# Altium footprint library Cap_Al.PcbLib: 6 footprints
Each footprint in its own frame and in the unit in brackets; x right, y up, seen from the top. Pads: shape width x height; smd on the part's side, far side on the other; paste and mask are expansions set on the pad; w line width, h text height; cw(c..) or ccw(c..) is an arc to the next point about the centre after c.
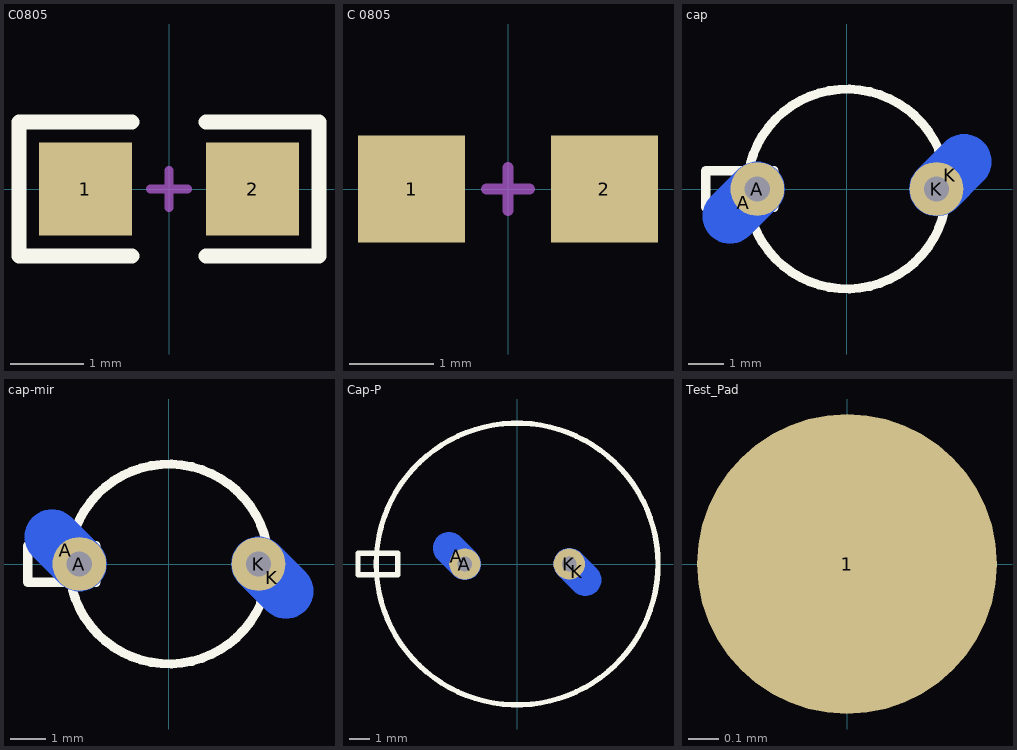
[diagram p0: the footprints below, top view; thin cyan lines are the x and y axes]

## C0805 [mil] "无极性贴片电容"
height 19.68
pads (2):
  rect 50x50 smd: 1(-45,0) 2(45,0)
Top Overlay:
  lines w8: -20,-36 -80.71,-36 -80.71,36 -20,36 ; 20,-36 80.71,-36 80.71,36 20,36
Mechanical 15:
  lines w5: -10,0 10,0 ; 0,-10 0,10
3D body "C 0805.STEP": height 20.08, standoff -0.39, extent -39.37,-24.02 39.37,24.02

## C 0805 [mil]
pads (2):
  rect 50x50 smd: 1(-45,0) 2(45,0)
Mechanical 15:
  lines w5: -10,0 10,0 ; 0,-10 0,10
3D body "R 0805.STEP": height 19.72, standoff -0.24, extent -39.37,-24.6 39.37,24.61

## cap [mm]
height 8
pads (4):
  oval 1.524x2.6 smd far side rot 135: A(-2.881,-0.381) K(2.885,0.384)
  round 1.5 hole 0.7: A(-2.5,0) K(2.5,0)
Top Overlay:
  circle w0.254: c0,0 r2.785
  lines w0.254: -3.937,-0.508 -3.937,0.508 -2.032,0.508 -2.032,-0.508 -3.937,-0.508

## cap-mir [mm]
height 8
pads (4):
  oval 1.524x2.6 smd far side rot 45: A(-2.881,0.381) K(2.885,-0.381)
  round 1.5 hole 0.7: A(-2.5,0) K(2.5,0)
Top Overlay:
  circle w0.254: c0,0 r2.785
  lines w0.254: -3.937,-0.508 -2.032,-0.508 -2.032,0.508 -3.937,0.508 -3.937,-0.508

## Cap-P [mm]
pads (4):
  oval 1.524x2.6 smd far side rot 45: A(-2.881,0.381) K(2.885,-0.381)
  round 1.5 hole 0.7: A(-2.5,0) K(2.5,0)
Top Overlay:
  circle w0.254: c0,0 r6.75
  lines w0.254: -7.62,-0.508 -5.715,-0.508 -5.715,0.508 -7.62,0.508 -7.62,-0.508

## Test_Pad [mm]
pads (1):
  round 1 smd: 1(0,0)